# Altium footprint library Linear Technology Footprints.PcbLib: 52 footprints (part 1 of 4)
Each footprint in its own frame and in the unit in brackets; x right, y up, seen from the top. Pads: shape width x height; smd on the part's side, far side on the other; paste and mask are expansions set on the pad; w line width, h text height; cw(c..) or ccw(c..) is an arc to the next point about the centre after c.
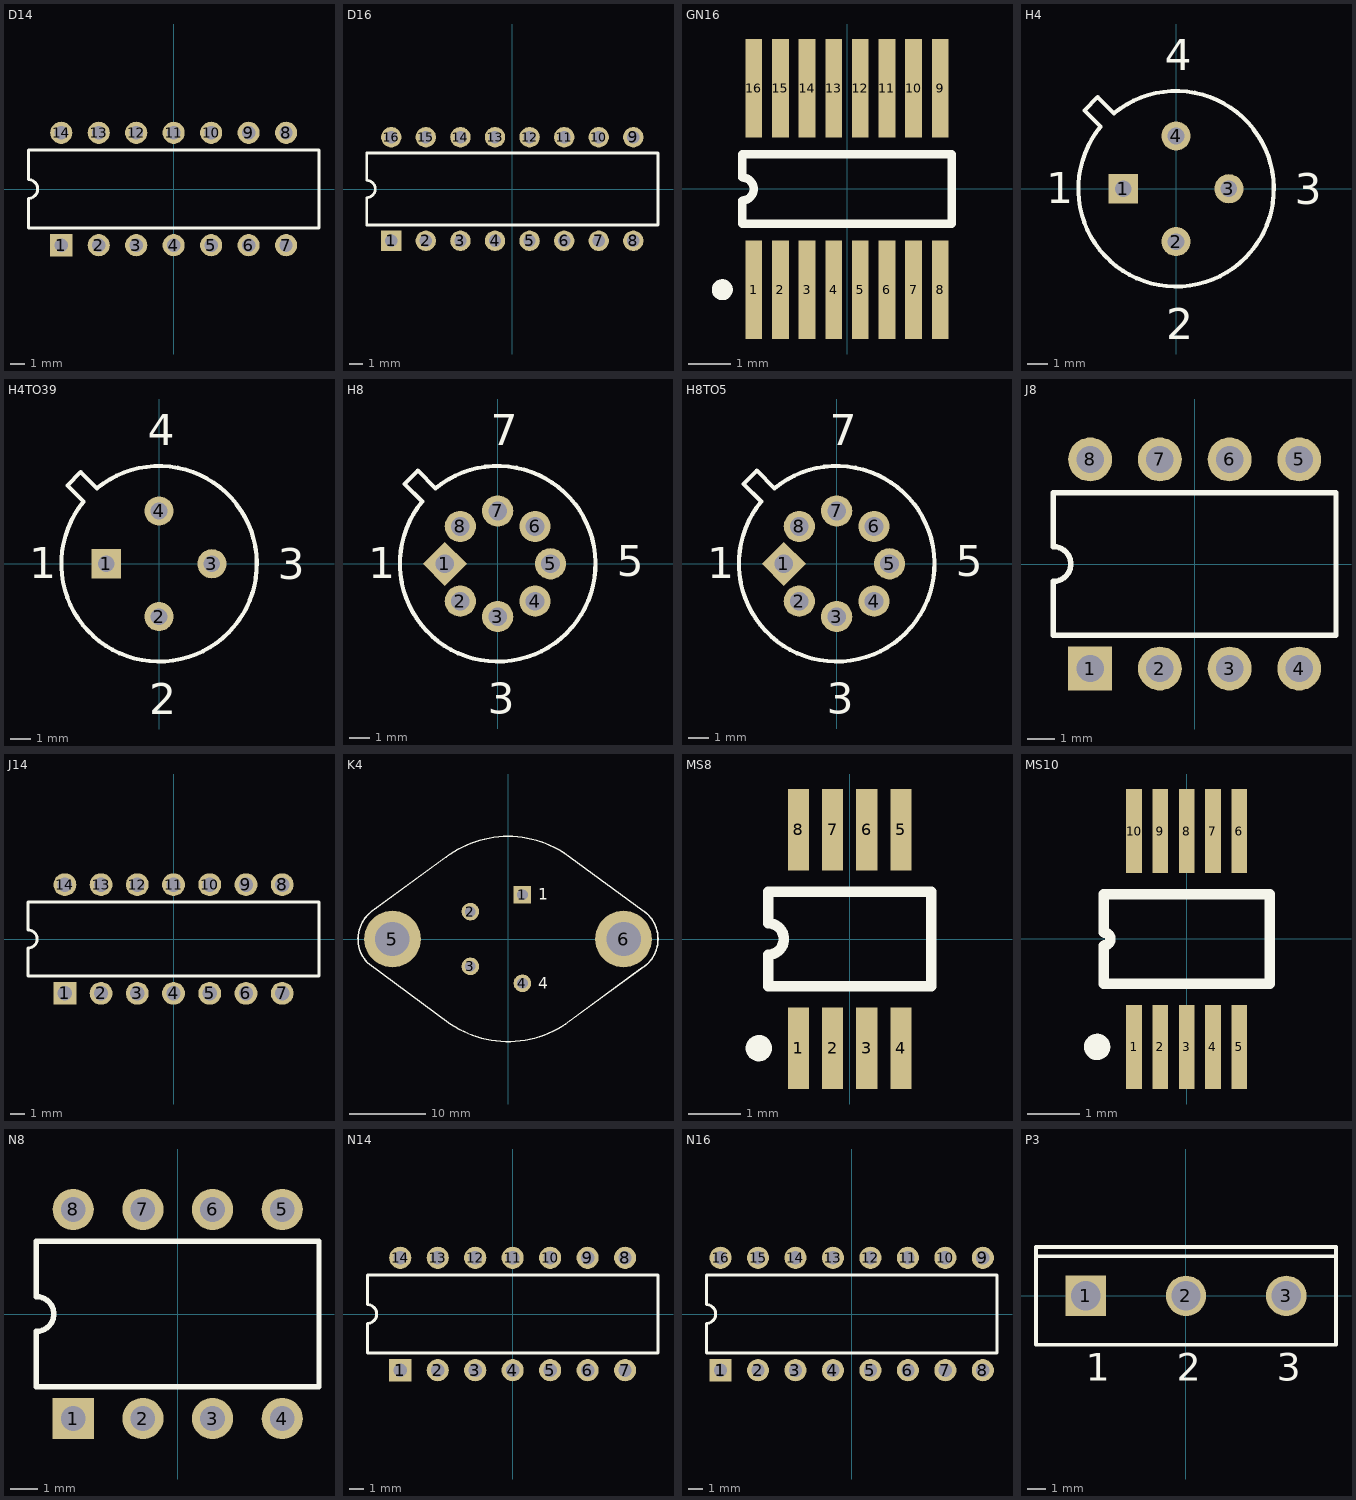
[diagram p0: the footprints below, top view; thin cyan lines are the x and y axes]

## D14 [mm] "DIP, Side-Brazed (Hermetic); 14 Leads; Row Spacing 7.62 mm; Pitch 2.54 mm"
height 4.2
pads (14):
  rect 1.5x1.5 hole 0.9: 1(-7.62,-3.81)
  round 1.5 hole 0.9: 2(-5.08,-3.81) 3(-2.54,-3.81) 4(0,-3.81) 5(2.54,-3.81) 6(5.08,-3.81) 7(7.62,-3.81) 8(7.62,3.81) 9(5.08,3.81) 10(2.54,3.81) 11(0,3.81) 12(-2.54,3.81) 13(-5.08,3.81) 14(-7.62,3.81)
Top Overlay:
  lines w0.2: -9.85,-2.65 9.85,-2.65 9.85,2.65 -9.85,2.65 -9.85,0.635 cw(c-9.85,0) -9.85,-0.635 -9.85,-2.65

## D16 [mm] "DIP, Side-Brazed (Hermetic); 16 Leads; Row Spacing 7.62 mm; Pitch 2.54 mm"
height 4.2
pads (16):
  rect 1.5x1.5 hole 0.9: 1(-8.89,-3.81)
  round 1.5 hole 0.9: 2(-6.35,-3.81) 3(-3.81,-3.81) 4(-1.27,-3.81) 5(1.27,-3.81) 6(3.81,-3.81) 7(6.35,-3.81) 8(8.89,-3.81) 9(8.89,3.81) 10(6.35,3.81) 11(3.81,3.81) 12(1.27,3.81) 13(-1.27,3.81) 14(-3.81,3.81) 15(-6.35,3.81) 16(-8.89,3.81)
Top Overlay:
  lines w0.2: -10.7,-2.65 -10.7,-0.635 ccw(c-10.7,0) -10.7,0.635 -10.7,2.65 10.7,2.65 10.7,-2.65 -10.7,-2.65

## GN16 [mm] "SSOP; 16 Leads; Body Width 3.9 mm; Pitch 0.635 mm"
height 1.73
pads (16):
  rect 0.4x2.35 smd: 1(-2.222,-2.4) 2(-1.587,-2.4) 3(-0.953,-2.4) 4(-0.318,-2.4) 5(0.318,-2.4) 6(0.953,-2.4) 7(1.587,-2.4) 8(2.222,-2.4) 9(2.222,2.4) 10(1.587,2.4) 11(0.953,2.4) 12(0.318,2.4) 13(-0.318,2.4) 14(-0.953,2.4) 15(-1.587,2.4) 16(-2.222,2.4)
Top Overlay:
  circle w0.25: c-2.973,-2.4 r0.125
  lines w0.2: -2.5,-0.825 -2.5,-0.275 ccw(c-2.5,0) -2.5,0.275 -2.5,0.825 2.5,0.825 2.5,-0.825 -2.5,-0.825

## H4 [mm] "Can; 4 Leads; Pin Circle Dia. 5.08 mm; Lead Dia. 0.48 mm (max)"
height 4.7
pads (4):
  rect 1.4x1.4 hole 0.8: 1(-2.54,0)
  round 1.4 hole 0.8: 2(0,-2.54) 3(2.54,0) 4(0,2.54)
Top Overlay:
  lines w0.2: -4.404,3.768 -3.626,2.99 ccw(c0,0) -2.99,3.626 -3.768,4.404 -4.404,3.768
  text "4" at -0.541,5.701 h1.5
  text "3" at 5.694,-0.751 h1.5
  text "2" at -0.469,-7.221 h1.5
  text "1" at -6.238,-0.697 h1.5

## H4TO39 [mm] "Can; 4 Leads; Pin Circle Dia. 5.08 mm; Lead Dia. 0.48 mm (max)"
height 4.96
pads (4):
  rect 1.4x1.4 hole 0.8: 1(-2.54,0)
  round 1.4 hole 0.8: 2(0,-2.54) 3(2.54,0) 4(0,2.54)
Top Overlay:
  lines w0.2: -4.404,3.768 -3.626,2.99 ccw(c0,0) -2.99,3.626 -3.768,4.404 -4.404,3.768
  text "4" at -0.541,5.701 h1.5
  text "3" at 5.694,-0.751 h1.5
  text "2" at -0.469,-7.221 h1.5
  text "1" at -6.238,-0.697 h1.5

## H8 [mm] "Can; 8 Leads; Pin Circle Dia. 5.08 mm; Lead Dia. 0.53 mm (max)"
height 4.7
pads (8):
  rect 1.5x1.5 hole 0.9 rot 45: 1(-2.54,0)
  round 1.5 hole 0.9: 2(-1.796,-1.796) 3(0,-2.54) 4(1.796,-1.796) 5(2.54,0) 6(1.796,1.796) 7(0,2.54) 8(-1.796,1.796)
Top Overlay:
  lines w0.2: -4.475,3.838 -3.838,4.475 -2.99,3.626 cw(c0,0) -3.626,2.99 -4.475,3.838
  text "1" at -6.22,-0.696 h1.5
  text "3" at -0.469,-7.22 h1.5
  text "5" at 5.712,-0.589 h1.5
  text "7" at -0.332,5.7 h1.5

## H8TO5 [mm] "Can; 8 Leads; Pin Circle Dia. 5.08 mm; Lead Dia. 0.53 mm (max)"
height 4.7
pads (8):
  rect 1.5x1.5 hole 0.9 rot 45: 1(-2.54,0)
  round 1.5 hole 0.9: 2(-1.796,-1.796) 3(0,-2.54) 4(1.796,-1.796) 5(2.54,0) 6(1.796,1.796) 7(0,2.54) 8(-1.796,1.796)
Top Overlay:
  lines w0.2: -4.475,3.838 -3.838,4.475 -2.99,3.626 cw(c0,0) -3.626,2.99 -4.475,3.838
  text "1" at -6.22,-0.696 h1.5
  text "3" at -0.469,-7.22 h1.5
  text "5" at 5.712,-0.589 h1.5
  text "7" at -0.332,5.7 h1.5

## J8 [mm] "DIP, Ceramic; 8 Leads; Row Spacing 7.62 mm; Pitch 2.54 mm"
height 5.08
pads (8):
  rect 1.6x1.6 hole 1: 1(-3.81,-3.81)
  round 1.6 hole 1: 2(-1.27,-3.81) 3(1.27,-3.81) 4(3.81,-3.81) 5(3.81,3.81) 6(1.27,3.81) 7(-1.27,3.81) 8(-3.81,3.81)
Top Overlay:
  lines w0.2: -5.15,-2.6 5.15,-2.6 5.15,2.6 -5.15,2.6 -5.15,0.635 cw(c-5.15,0) -5.15,-0.635 -5.15,-2.6

## J14 [mm] "DIP, Ceramic; 14 Leads; Row Spacing 7.62 mm; Pitch 2.54 mm"
height 5.08
pads (14):
  rect 1.6x1.6 hole 1: 1(-7.62,-3.81)
  round 1.6 hole 1: 2(-5.08,-3.81) 3(-2.54,-3.81) 4(0,-3.81) 5(2.54,-3.81) 6(5.08,-3.81) 7(7.62,-3.81) 8(7.62,3.81) 9(5.08,3.81) 10(2.54,3.81) 11(0,3.81) 12(-2.54,3.81) 13(-5.08,3.81) 14(-7.62,3.81)
Top Overlay:
  lines w0.2: -10.2,-2.6 -10.2,-0.635 ccw(c-10.2,0) -10.2,0.635 -10.2,2.6 10.2,2.6 10.2,-2.6 -10.2,-2.6

## K4 [mm] "Oval Flange Mount; 4 Leads; Pin Circle Dia. 11.94 mm; Lead Dia. 1.09 mm (max)"
height 8.89
pads (6):
  rect 2.3x2.3 hole 1.4: 1(1.88,5.779)
  round 2.3 hole 1.4: 2(-4.915,3.571) 3(-4.915,-3.571) 4(1.88,-5.779)
  round 7.4 hole 4.5: 5(-15.075,0) 6(15.075,0)
Top Overlay:
  lines w0.2: 17.324,-3.9 7.511,-11.097 cw(c0,0) -7.481,-11.117 -18.322,-3.115 cw(c-15.075,0) -17.858,3.536 -8.078,10.691 cw(c0,0) 8.105,10.671 17.631,3.704 cw(c15.075,0) 17.325,-3.897
  text "1" at 3.93,5.1 h1.5
  text "4" at 3.93,-6.51 h1.5

## MS8 [mm] "Shrink Small Outline; 8 Leads; Body Width 3 mm; Pitch 0.65 mm"
height 1.17
pads (8):
  rect 0.4x1.55 smd: 1(-0.975,-2.075) 2(-0.325,-2.075) 3(0.325,-2.075) 4(0.975,-2.075) 5(0.975,2.075) 6(0.325,2.075) 7(-0.325,2.075) 8(-0.975,2.075)
Top Overlay:
  circle w0.25: c-1.725,-2.075 r0.125
  lines w0.2: -1.55,-0.9 1.55,-0.9 1.55,0.9 -1.55,0.9 -1.55,0.3 cw(c-1.55,0) -1.55,-0.3 -1.55,-0.9

## MS10 [mm] "Shrink Small Outline; 10 Leads; Body Width 3 mm; Pitch 0.5 mm"
height 1.1
pads (10):
  rect 0.3x1.6 smd: 1(-1,-2.05) 2(-0.5,-2.05) 3(0,-2.05) 4(0.5,-2.05) 5(1,-2.05) 6(1,2.05) 7(0.5,2.05) 8(0,2.05) 9(-0.5,2.05) 10(-1,2.05)
Top Overlay:
  circle w0.25: c-1.7,-2.05 r0.125
  lines w0.2: -1.575,-0.85 1.575,-0.85 1.575,0.85 -1.575,0.85 -1.575,0.125 cw(c-1.575,0) -1.575,-0.125 -1.575,-0.85

## N8 [mm] "DIP, Plastic; 8 Leads; Row Spacing 7.62 mm; Pitch 2.54 mm"
height 4.45
pads (8):
  rect 1.5x1.5 hole 0.9: 1(-3.81,-3.81)
  round 1.5 hole 0.9: 2(-1.27,-3.81) 3(1.27,-3.81) 4(3.81,-3.81) 5(3.81,3.81) 6(1.27,3.81) 7(-1.27,3.81) 8(-3.81,3.81)
Top Overlay:
  lines w0.2: -5.15,-2.65 -5.15,-0.635 ccw(c-5.15,0) -5.15,0.635 -5.15,2.65 5.15,2.65 5.15,-2.65 -5.15,-2.65

## N14 [mm] "DIP, Plastic; 14 Leads; Row Spacing 7.62 mm; Pitch 2.54 mm"
height 4.45
pads (14):
  rect 1.5x1.5 hole 0.9: 1(-7.62,-3.81)
  round 1.5 hole 0.9: 2(-5.08,-3.81) 3(-2.54,-3.81) 4(0,-3.81) 5(2.54,-3.81) 6(5.08,-3.81) 7(7.62,-3.81) 8(7.62,3.81) 9(5.08,3.81) 10(2.54,3.81) 11(0,3.81) 12(-2.54,3.81) 13(-5.08,3.81) 14(-7.62,3.81)
Top Overlay:
  lines w0.2: -9.85,-2.65 -9.85,-0.635 ccw(c-9.85,0) -9.85,0.635 -9.85,2.65 9.85,2.65 9.85,-2.65 -9.85,-2.65

## N16 [mm] "DIP, Plastic; 16 Leads; Row Spacing 7.62 mm; Pitch 2.54 mm"
height 4.45
pads (16):
  rect 1.5x1.5 hole 0.9: 1(-8.89,-3.81)
  round 1.5 hole 0.9: 2(-6.35,-3.81) 3(-3.81,-3.81) 4(-1.27,-3.81) 5(1.27,-3.81) 6(3.81,-3.81) 7(6.35,-3.81) 8(8.89,-3.81) 9(8.89,3.81) 10(6.35,3.81) 11(3.81,3.81) 12(1.27,3.81) 13(-1.27,3.81) 14(-3.81,3.81) 15(-6.35,3.81) 16(-8.89,3.81)
Top Overlay:
  lines w0.2: -9.85,-2.65 9.85,-2.65 9.85,2.65 -9.85,2.65 -9.85,0.635 cw(c-9.85,0) -9.85,-0.635 -9.85,-2.65

## P3 [mm] "SIP with Mounting Hole; 3 Leads; Body 21.6 x 16 x 5 mm (typ); Pitch 5.45 mm"
height 26.5
pads (3):
  rect 2.2x2.2 hole 1.6: 1(-5.45,0)
  round 2.2 hole 1.6: 2(0,0) 3(5.45,0)
Top Overlay:
  lines w0.2: -8.15,2.15 8.15,2.15 ; -8.15,-2.65 -8.15,2.65 8.15,2.65 8.15,-2.65 -8.15,-2.65
  text "3" at 4.942,-4.625 h1.5
  text "2" at -0.508,-4.625 h1.5
  text "1" at -5.45,-4.625 h1.5